# EAGLE library part 750310334 (library Wurth Electronics Midcom Inc V1-0)
Package Style: Speedy EE16/8/5 TH Mounting: THT Pins: 8 pins Bobbin: 070-5420 Windings Primary: Aux: Secondary: Best pinouts for production vary per application. Please contact Wurth Electronics Midcom, Inc. for assistance with your custom design. Datasheet: 750310334 <http://www.we-online.com/web/en/index.php/show/media/passive_components_-_custom_magnetics/pdf_doc_files/spec_sheets/7503/750310334.pdf> Website: Wurth Electronics Midcom <http://www.we-online.com/midcom> Contact us Wurth Electronics Midcom, Inc. 121 Airport Dr. Watertown, SD 57201 Phone: (605) 886-4385 Fax: (605) 886-4486 E-Mail: midcom@we-online.com
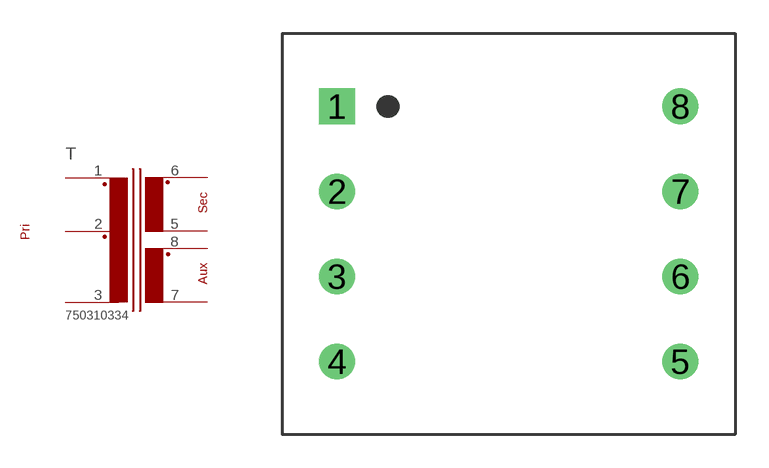
[diagram p55: symbol with the pads of 00SPEEDY_EE16/8/5_THT_H_8PIN; footprint 00SPEEDY_EE16/8/5_THT_H_8PIN]

Designator prefix T

## 750310334  [00SPEEDY_EE16/8/5_THT_H_8PIN]
1  1  pas
2  2  pas
3  3  pas
5  6  pas
6  5  pas
7  8  pas
8  7  pas

## Footprint 00SPEEDY_EE16/8/5_THT_H_8PIN (pad centres in mm)
Package Style: Speedy EE16/8/5 Mounting: THT Pins: 8 pins Bobbin: 070-5420
drill 1.067 square: 1 -7.696,5.715
drill 1.067 round: 2 -7.696,1.905; 3 -7.696,-1.905; 4 -7.696,-5.715; 5 7.696,-5.715; 6 7.696,-1.905; 7 7.696,1.905; 8 7.696,5.715